# Altium footprint library H71V2.PcbLib: 34 footprints (part 3 of 3)
Each footprint in its own frame and in the unit in brackets; x right, y up, seen from the top. Pads: shape width x height; smd on the part's side, far side on the other; paste and mask are expansions set on the pad; w line width, h text height; cw(c..) or ccw(c..) is an arc to the next point about the centre after c.
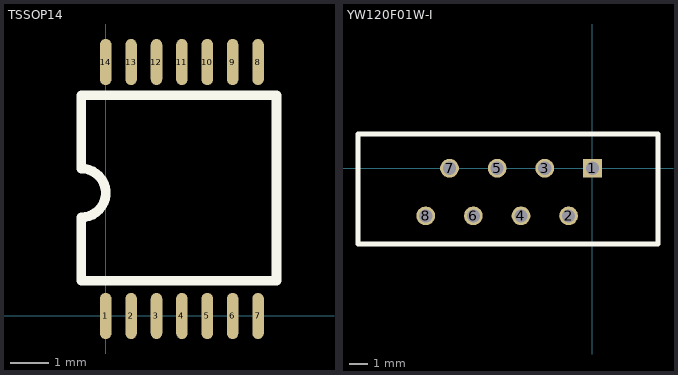
[diagram p2: the footprints below, top view; thin cyan lines are the x and y axes]

## TSSOP14 [mm]
pads (14):
  oval 0.3x1.2 smd: 1(0,0) 2(0.66,0) 3(1.321,0) 4(1.981,0) 5(2.642,0) 6(3.302,0) 7(3.962,0) 8(3.962,6.604) 9(3.302,6.604) 10(2.642,6.604) 11(1.981,6.604) 12(1.321,6.604) 13(0.66,6.604) 14(0,6.604)
Top Overlay:
  lines w0.254: -0.635,0.914 4.445,0.914 4.445,5.74 -0.635,5.74 -0.635,3.835 cw(c-0.635,3.2) -0.635,2.565 -0.635,0.914

## YW120F01W-I [mm]
pads (8):
  rect 1x1 hole 0.7: 1(0,0)
  round 1 hole 0.7: 2(-1.27,-2.54) 3(-2.54,0) 4(-3.81,-2.54) 5(-5.08,0) 6(-6.35,-2.54) 7(-7.62,0) 8(-8.89,-2.54)
Top Overlay:
  lines w0.254: -12.503,1.819 -12.5,-4.043 3.5,-4.043 3.495,1.819 ; -12.5,1.829 3.5,1.829